# Altium schematic symbol library conn_usb.SchLib: 27 symbols
Pins are listed as number, name and electrical type; pins without a type are passive.

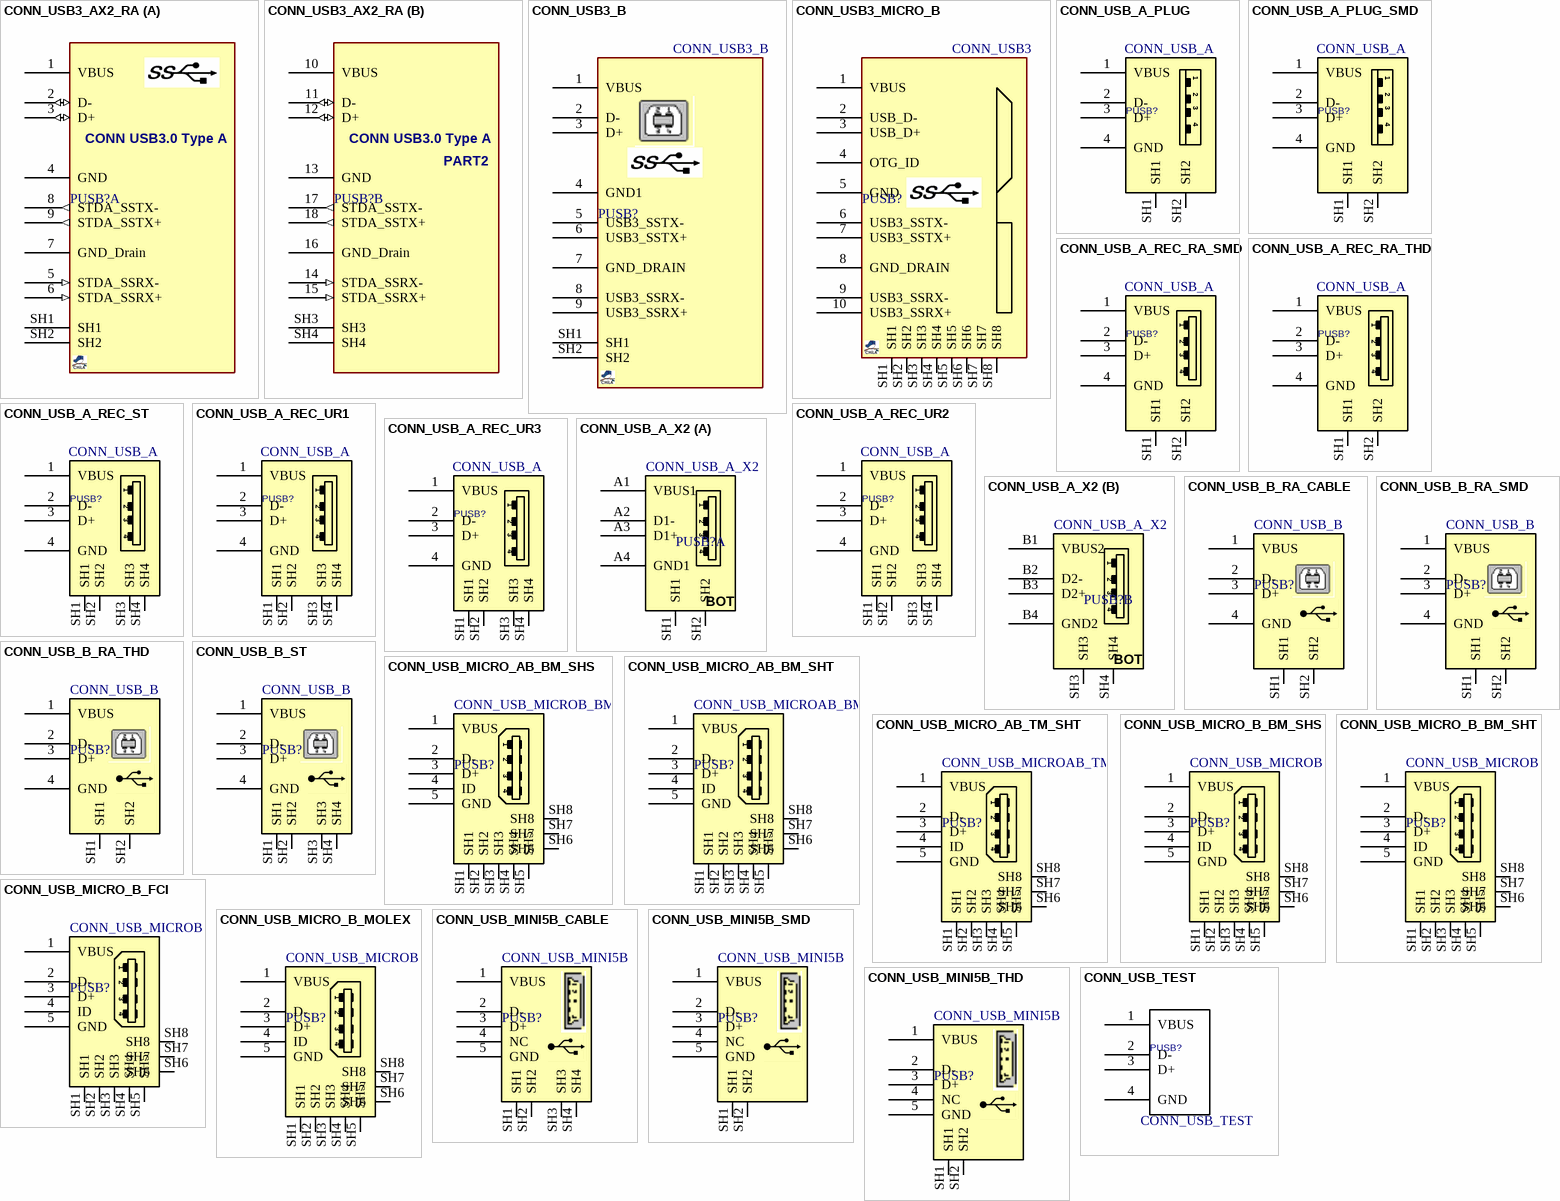
[diagram p0: symbols CONN_USB3_AX2_RA to CONN_USB_TEST]

## CONN_USB3_AX2_RA
designator PUSB?, comment CONN_USB3_AX2  (value not drawn)
CONN, USB3, A, DUAL R/A, THD; MANF_P#: USB1100-30-A; MANF: GCT; PRICE: 1$; VALUE: CONN_USB3_AX2
footprint USB3_A_RA_X2 (USB 3.0 Dual Receptecal, Type A, Top Mount, Through Hole, Horizontal)
part A pins: 1 VBUS (power), 2 D- (io), 3 D+ (io), 4 GND (power), 5 STDA_SSRX- (in), 6 STDA_SSRX+ (in), 7 GND_Drain (power), 8 STDA_SSTX- (out), 9 STDA_SSTX+ (out), SH1, SH2
part B pins: 10 VBUS (power), 11 D- (io), 12 D+ (io), 13 GND (power), 14 STDA_SSRX- (in), 15 STDA_SSRX+ (in), 16 GND_Drain (power), 17 STDA_SSTX- (out), 18 STDA_SSTX+ (out), SH3, SH4
part A text: CONN USB3.0 Type A
part B text: CONN USB3.0 Type A; PART2

## CONN_USB3_B
designator PUSB?
CONN, USB3, B, R/A, THD; MANF_P#: UEB1112C-2AK1-4H; MANF: -; VALUE: CONN_USB3_B
footprint USB3_B_RA_THD (CONN, USB3.0, TYPE B, THD)
pins: 1 VBUS, 2 D-, 3 D+, 4 GND1, 5 USB3_SSTX-, 6 USB3_SSTX+, 7 GND_DRAIN, 8 USB3_SSRX-, 9 USB3_SSRX+, SH1, SH2

## CONN_USB3_MICRO_B
designator PUSB?, comment CONN_USB3
CONN, USB3, MICRO B, SMD; MANF_P#: GSB343133HR; MANF: Amphenol; MANF_P#2: CMS1811-010010 (HOSIDEN); VALUE: CONN_USB3
footprint USB3_MICRO_B (CONN, USB3, Micro B, CMS1811-010010 (HOSIDEN), GSB343133HR (AMPHENOL))
pins: 1 VBUS, 2 USB_D-, 3 USB_D+, 4 OTG_ID, 5 GND, 6 USB3_SSTX-, 7 USB3_SSTX+, 8 GND_DRAIN, 9 USB3_SSRX-, 10 USB3_SSRX+, SH1, SH2, SH3, SH4, SH5, SH6, SH7, SH8

## CONN_USB_A_PLUG
designator PUSB?, comment CONN_USB_A
CONN, USB, A, PLUG, THD; MANF: CUI; MANF_P#: UP2-AH-1-TH; PRICE: 0.5$; VALUE: CONN_USB_A
footprint USB_A_PLG_RA (CONN, USB, Type A, PLUG, Right Angle, SMD, THD)
pins: 1 VBUS, 2 D-, 3 D+, 4 GND, SH1, SH2

## CONN_USB_A_PLUG_SMD
designator PUSB?, comment CONN_USB_A
CONN, USB, A, PLUG, THD; MANF: MOLEX; MANF_P#: 48037-2200; PRICE: 1$; VALUE: CONN_USB_A
footprint USB_A_PLG_RA_SMD (Footprint not found)
pins: 1 VBUS, 2 D-, 3 D+, 4 GND, SH1, SH2

## CONN_USB_A_REC_RA_SMD
designator PUSB?, comment CONN_USB_A
CONN, USB, A, RECEPTACLE, R/A, SMD; VALUE: CONN_USB_A
footprint USB_A_REC_RA_SMD (CONN, USB A, Receptacle, RIGHT ANGLE, SMD)
pins: 1 VBUS, 2 D-, 3 D+, 4 GND, SH1, SH2

## CONN_USB_A_REC_RA_THD
designator PUSB?, comment CONN_USB_A
CONN, USB, A, RECEPTACLE, R/A, THD; VALUE: CONN_USB_A
footprint USB_A_REC_RA_THD (CONN, USB A, Receptacle, RIGHT ANGLE, THD)
pins: 1 VBUS, 2 D-, 3 D+, 4 GND, SH1, SH2

## CONN_USB_A_REC_ST
designator PUSB?, comment CONN_USB_A
CONN, USB, A, RECEPTACLE, STRAIGHT, THD; VALUE: CONN_USB_A
footprint USB_A_REC_ST (CONN, USB A, Receptacle, STRAIGHT, THD)
pins: 1 VBUS, 2 D-, 3 D+, 4 GND, SH1, SH2, SH3, SH4

## CONN_USB_A_REC_UR1
designator PUSB?, comment CONN_USB_A
CONN, USB, A, RECEPTACLE, R/A, THD, VERTICAL; MANF: Amphenol, Molex; MANF_P#: GSB19110KEU, 48204-0001; PRICE: 0.5$; VALUE: CONN_USB_A
footprint USB_A_REC_UR1 (CONN, USB A, upright, Right Angle, VERTICAL, THD)
pins: 1 VBUS, 2 D-, 3 D+, 4 GND, SH1, SH2, SH3, SH4

## CONN_USB_A_REC_UR2
designator PUSB?, comment CONN_USB_A
CONN, USB, A, RECEPTACLE, R/A, THD, VERTICAL; MANF: Amphenol, Kycon; MANF_P#: 73725-0110BLF, KUSBXHT-SLAS1N-O-HRF; PRICE: 0.5$; VALUE: CONN_USB_A
footprint USB_A_REC_UR2 (CONN, USB A, upright, Right Angle, VERTICAL, THD)
pins: 1 VBUS, 2 D-, 3 D+, 4 GND, SH1, SH2, SH3, SH4

## CONN_USB_A_REC_UR3
designator PUSB?, comment CONN_USB_A
CONN, USB, A, RECEPTACLE, R/A, THD, VERTICAL; MANF: MOLEX; MANF_P#: 67329-8000; VALUE: CONN_USB_A
footprint USB_A_REC_UR3 (CONN, USB A, upright, Right Angle, VERTICAL, THD)
pins: 1 VBUS, 2 D-, 3 D+, 4 GND, SH1, SH2, SH3, SH4

## CONN_USB_A_X2
designator PUSB?
CONN, USB, A, RECEPTACLE, R/A, THD, DUAL; MANF_P#: 5787617-1; MANF: TE Connectivity; VALUE: CONN_USB_A_X2
footprint USBA-2J (Dual port USB connector)
part A pins: A1 VBUS1, A2 D1-, A3 D1+, A4 GND1, SH1, SH2
part B pins: B1 VBUS2, B2 D2-, B3 D2+, B4 GND2, SH3, SH4
part A text: 1; 2; 3; 4; BOT
part B text: 1; 2; 3; 4; BOT

## CONN_USB_B_RA_CABLE
designator PUSB?, comment CONN_USB_B
CONN, USB, B, R/A, THD, CABLE; MANF_P#: -; MANF: -; VALUE: CONN_USB_B
footprint USB_B_RA_CABLE (CONN, USB B, Receptacle, RIGHT ANGLE, THD)
pins: 1 VBUS (power), 2 D-, 3 D+, 4 GND (power), SH1, SH2

## CONN_USB_B_RA_SMD
designator PUSB?, comment CONN_USB_B
CONN, USB, B, R/A, SMD; MANF_P#: KUSBEX-SMT-BS1N-BTR; MANF: Kycon; MANF_P#2: KUSBX-SMTBS1NBTR, KUSBX-SMTBS1NWTR; VALUE: CONN_USB_B
footprint USB_B_RA_SMD (CONN, USB B, Receptacle, RIGHT ANGLE, SMD)
pins: 1 VBUS (power), 2 D-, 3 D+, 4 GND (power), SH1, SH2

## CONN_USB_B_RA_THD
designator PUSB?, comment CONN_USB_B
CONN, USB, B, R/A, THD; MANF_P#: 292304-1; MANF: TE Connectivity; VALUE: CONN_USB_B
footprint USB_B_RA_THD (CONN, USB B, Receptacle, RIGHT ANGLE, THD)
pins: 1 VBUS (power), 2 D-, 3 D+, 4 GND (power), SH1, SH2

## CONN_USB_B_ST
designator PUSB?, comment CONN_USB_B
CONN, USB, B, STRAIGHT, THD; MANF_P#: -; MANF: -; VALUE: CONN_USB_B
footprint USB_B_ST (CONN, USB B, Receptacle, STRAIGHT, THD)
pins: 1 VBUS (power), 2 D-, 3 D+, 4 GND (power), SH1, SH2, SH3, SH4

## CONN_USB_MICRO_AB_BM_SHS
designator PUSB?, comment CONN_USB_MICROB_BM
CONN, USB, MICRO AB, R/A, SMD, BOTTOM MOUNT; MANF_P#: 1981584-1; MANF: TE; PARAM2: 30VAC; PARAM: 1.8A, -30~85oC; MANF_P#2: HIROSE ZX62-AB-5PA; PRICE: 0.75$; VALUE: CONN_USB_MICROB_BM
footprint USB_MICRO_AB_BM_SHS (CONN, USB Micro AB - Standard (Bottom mount), Shell THD, TE 1981584-1)
pins: 1 VBUS (power), 2 D-, 3 D+, 4 ID (power), 5 GND (power), SH1, SH2, SH3, SH4, SH5, SH6, SH7, SH8

## CONN_USB_MICRO_AB_BM_SHT
designator PUSB?, comment CONN_USB_MICROAB_BM
CONN, USB, MICRO AB, R/A, SMD, BOTTOM MOUNT; MANF_P#: 47589-0001; MANF: MOLEX; PARAM2: 30VAC; PARAM: 1.8A, -20~85oC; MANF_P#2: HIROSE ZX62D-AB-5P8; PRICE: 0.75$; VALUE: CONN_USB_MICROAB_BM
footprint USB_MICRO_AB_BM_SHT (CONN, USB Micro AB - Standard (Bottom mount), Shell THD, G610)
pins: 1 VBUS (power), 2 D-, 3 D+, 4 ID (power), 5 GND (power), SH1, SH2, SH3, SH4, SH5, SH6, SH7, SH8

## CONN_USB_MICRO_AB_TM_SHT
designator PUSB?, comment CONN_USB_MICROAB_TM
CONN, USB, MICRO AB, R/A, SMD, TOP MOUNT; MANF_P#: 47590-0001; MANF: MOLEX; PARAM2: 30VAC; PARAM: 1.8A, -20~85oC; PRICE: 0.75$; VALUE: CONN_USB_MICROAB_TM
footprint USB_MICRO_AB_TM_SHT (CONN, USB Micro AB, Top mount, Shell THT, molex 475900001)
pins: 1 VBUS (power), 2 D-, 3 D+, 4 ID (power), 5 GND (power), SH1, SH2, SH3, SH4, SH5, SH6, SH7, SH8

## CONN_USB_MICRO_B_BM_SHS
designator PUSB?, comment CONN_USB_MICROB
CONN, USB, MICRO B, R/A, SMD, BOTTOM MOUNT; MANF_P#: 47346-0001; MANF: Molex; MANF_P#2: HIROSE ZX62-AB-5PA; PARAM2: 30VAC; PARAM: 1.8A, -20~85oC; PRICE: 0.75$; VALUE: CONN_USB_MICROB
footprint USB_MICRO_B_BM_SHS (CONN, USB Micro B - Standard (Bottom mount), Shell SMD, 473460001, ZX62-AB-5PA)
pins: 1 VBUS (power), 2 D-, 3 D+, 4 ID (power), 5 GND (power), SH1, SH2, SH3, SH4, SH5, SH6, SH7, SH8

## CONN_USB_MICRO_B_BM_SHT
designator PUSB?, comment CONN_USB_MICROB
CONN, USB, MICRO B, R/A, SMD, BOTTOM MOUNT, SHT; MANF_P#: -; MANF: -; VALUE: CONN_USB_MICROB
footprint USB_MICRO_B_BM_SHT (CONN, USB Micro AB - Standard (Bottom mount), Shell SMT)
pins: 1 VBUS (power), 2 D-, 3 D+, 4 ID (power), 5 GND (power), SH1, SH2, SH3, SH4, SH5, SH6, SH7, SH8

## CONN_USB_MICRO_B_FCI
designator PUSB?, comment CONN_USB_MICROB
CONN, USB, MICRO B, R/A, SMD, BOTTOM MOUNT; MANF_P#: 10103593-0001LF; MANF: FCI; VALUE: CONN_USB_MICROB
footprint USB_MICRO_B_FCI (CONN, USB Micro AB)
pins: 1 VBUS (power), 2 D-, 3 D+, 4 ID (power), 5 GND (power), SH1, SH2, SH3, SH4, SH5, SH6, SH7, SH8

## CONN_USB_MICRO_B_MOLEX
designator PUSB?, comment CONN_USB_MICROB
CONN, USB, MICRO B, R/A, SMD, BOTTOM MOUNT; MANF_P#: 47491-0001; MANF: MOLEX; VALUE: CONN_USB_MICROB
footprint USB_MICRO_B_MOLEX (CONN, USB Micro AB)
pins: 1 VBUS (power), 2 D-, 3 D+, 4 ID (power), 5 GND (power), SH1, SH2, SH3, SH4, SH5, SH6, SH7, SH8

## CONN_USB_MINI5B_CABLE
designator PUSB?, comment CONN_USB_MINI5B
CONN, USB, MINI 5 B, R/A, SMD; MANF_P#: UX60-MB-5ST; MANF: Hirose; MANF_P#2: 67503-1020 MOLEX; VALUE: CONN_USB_MINI5B
footprint USB_MINI_B5_CABLE (CONN, USB MINI B, 5PIN, RIGHT ANGLE, SMD)
pins: 1 VBUS (power), 2 D-, 3 D+, 4 NC (power), 5 GND (power), SH1, SH2, SH3, SH4

## CONN_USB_MINI5B_SMD
designator PUSB?, comment CONN_USB_MINI5B
CONN, USB, MINI 5 B, R/A, SMD; MANF_P#: UX60-MB-5ST; MANF: Hirose; MANF_P#2: 67503-1020 MOLEX; VALUE: CONN_USB_MINI5B
footprint USB_MINI_B5_SMD (CONN, USB MINI B, 5PIN, RIGHT ANGLE, SMD)
pins: 1 VBUS (power), 2 D-, 3 D+, 4 NC (power), 5 GND (power), SH1, SH2

## CONN_USB_MINI5B_THD
designator PUSB?, comment CONN_USB_MINI5B
CONN, USB, MINI 5 B, R/A, THD; MANF_P#: -; MANF: -; VALUE: CONN_USB_MINI5B
footprint USB_MINI_B5_THD (CONN, USB MINI B, 5PIN, RIGHT ANGLE, THD)
pins: 1 VBUS (power), 2 D-, 3 D+, 4 NC (power), 5 GND (power), SH1, SH2

## CONN_USB_TEST
designator PUSB?
CONN, USB, TEST; VALUE: CONN_USB_TEST
footprint USBTEST (CONN, USB A Receptacle RIGHT ANGLE)
pins: 1 VBUS, 2 D-, 3 D+, 4 GND